# EAGLE library part ACS725LLCTR-05AB-T (library ACS725LLCTR-05AB-T)
High-Accuracy, 3.3V Isolated Current Sensor with Stray Field Rejection Source: Datasheet <https://www.allegromicro.com/-/media/files/datasheets/acs725-datasheet.ashx>
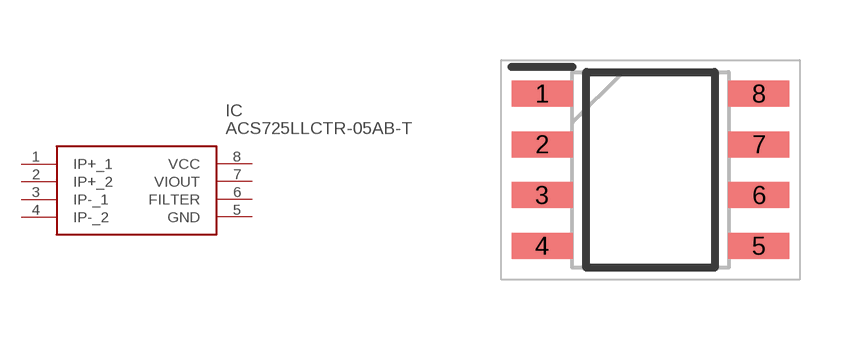
[diagram p0: symbol with the pads of SOIC127P600X175-8N; footprint SOIC127P600X175-8N]

Designator prefix IC

## ACS725LLCTR-05AB-T (Description: High-Accuracy, 3.3V Isolated Current Sensor with Stray Field Rejection; Height: 1.75mm; Manufacturer_Name: Allegro Microsystems; Manufacturer_Part_Number: ACS725LLCTR-05AB-T; Mouser_Part_Number: 250-725LLCTR05ABT; Mouser_Price-Stock: https://www.mouser.co.uk/ProductDetail/Allegro-MicroSystems/ACS725LLCTR-05AB-T?qs=pUKx8fyJudD0gM9RcXk04g%3D%3D)  [SOIC127P600X175-8N]
1  IP+_1
2  IP+_2
3  IP-_1
4  IP-_2
5  GND
6  FILTER
7  VIOUT
8  VCC

## Footprint SOIC127P600X175-8N (pad centres in mm)
Package LC, 8-Pin SOIC
smd 1.525 x 0.65: 1 -2.712,1.905; 2 -2.712,0.635; 3 -2.712,-0.635; 4 -2.712,-1.905; 5 2.712,-1.905; 6 2.712,-0.635; 7 2.712,0.635; 8 2.712,1.905